# Altium footprint library rpi_shield.PcbLib: 42 footprints (part 2 of 3)
Each footprint in its own frame and in the unit in brackets; x right, y up, seen from the top. Pads: shape width x height; smd on the part's side, far side on the other; paste and mask are expansions set on the pad; w line width, h text height; cw(c..) or ccw(c..) is an arc to the next point about the centre after c.
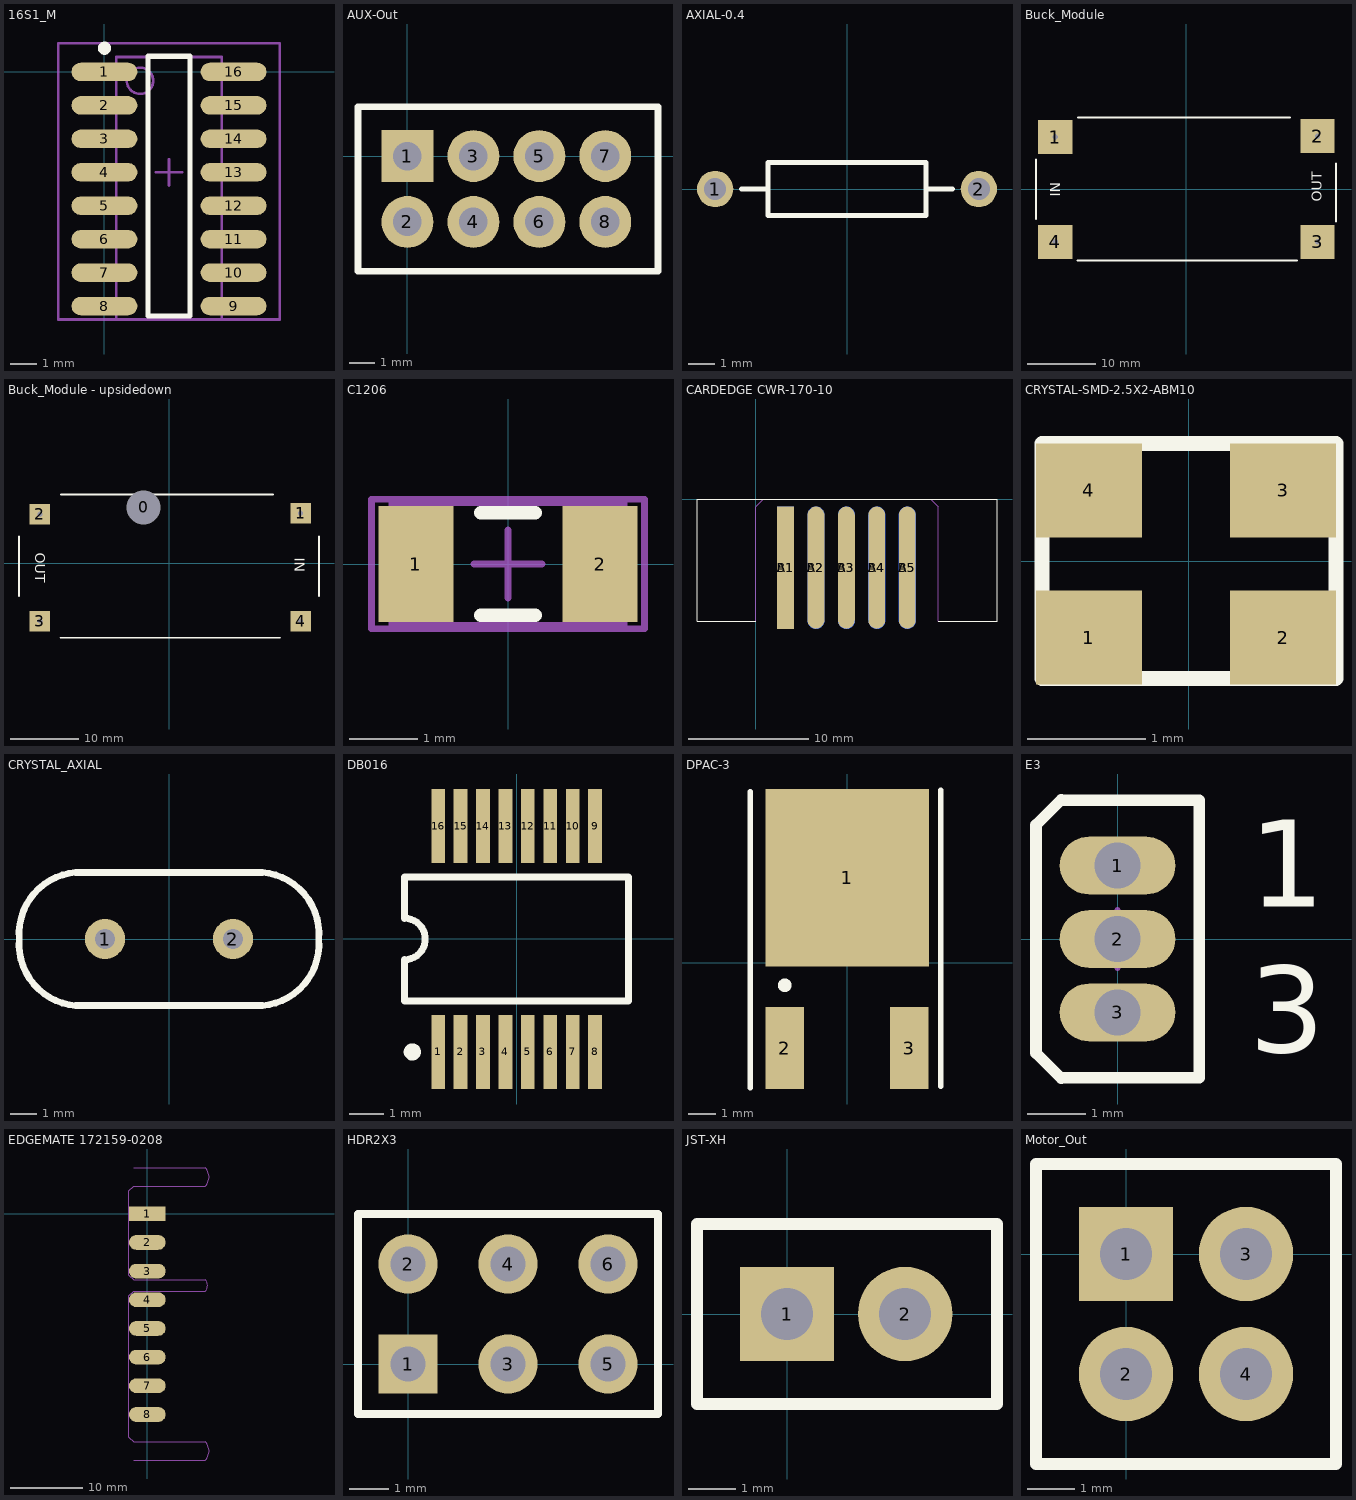
[diagram p1: the footprints below, top view; thin cyan lines are the x and y axes]

## 16S1_M [mm] "SOIC, 14-Leads, Body 8.7x3.9mm, Pitch 1.27mm, IPC Low Density"
height 1.75
pads (16):
  oval 2.5x0.7 smd: 1(0,0) 2(0,-1.27) 3(0,-2.54) 4(0,-3.81) 5(0,-5.08) 6(0,-6.35) 7(0,-7.62) 8(0,-8.89) 9(4.9,-8.89) 10(4.9,-7.62) 11(4.9,-6.35) 12(4.9,-5.08) 13(4.9,-3.81) 14(4.9,-2.54) 15(4.9,-1.27) 16(4.9,0)
Top Overlay:
  circle w0.25: c0,0.9 r0.125
  lines w0.2: 1.65,-9.271 3.25,-9.271 3.25,0.59 1.65,0.59 1.65,-9.271
Mechanical 13:
  circle w0.1: c1.35,-0.335 r0.5
  lines w0.1: 0.45,-9.398 4.45,-9.398 4.45,0.565 0.45,0.565 0.45,-9.398
Mechanical 15:
  lines w0.1: 1.95,-3.81 2.95,-3.81 ; 2.45,-4.31 2.45,-3.31 ; -1.75,-9.398 6.65,-9.398 6.65,1.09 -1.75,1.09 -1.75,-9.398
3D body: height 1.75, standoff 0, extent 0.45,-9.398 4.45,0.565

## AUX-Out [mm] "2.54mm"
pads (8):
  rect 2x2 hole 1.1: 1(0,0)
  round 2 hole 1.1: 2(0,-2.54) 3(2.54,0) 4(2.54,-2.54) 5(5.08,0) 6(5.08,-2.54) 7(7.62,0) 8(7.62,-2.54)
Top Overlay:
  lines w0.254: -1.905,-4.445 -1.905,1.905 9.652,1.905 9.652,-4.445 -1.905,-4.445

## AXIAL-0.4 [mm] "Axial Device, Thru-Hole; 2 Leads; 0.4 in Pin Spacing"
height 2.032
pads (2):
  round 1.4 hole 0.85: 1(-5.08,0) 2(5.08,0)
Top Overlay:
  lines w0.2: -4.064,0 -3.048,0 ; 3.048,0 4.064,0 ; -3.048,-1.016 3.048,-1.016 3.048,1.016 -3.048,1.016 -3.048,-1.016

## Buck_Module [mil]
height 472.44
pads (4):
  rect 196.85x196.85 hole 30: 1(-755,300) 2(760,305) 3(760,-305) 4(-755,-305)
Top Overlay:
  lines w10: -866.14,-173.86 -866.14,172.24 ; -626.61,-413.39 641.61,-413.39 ; -625,413.39 601.61,413.39 ; 866.14,-188.86 866.14,148.86
  text "OUT" at 785,-75 h60
  text "IN" at -725,-45 h60
3D body: height 590.55, standoff 118.11, extent -855,-400 855,400

## Buck_Module - upsidedown [mm]
height 12.3
pads (5):
  round 3 hole 5 unplated: 0(-3.8,8.184)
  rect 3x3 hole 0.762: 1(19.241,7.311) 2(-19,7.184) 3(-19,-8.5) 4(19.241,-8.5)
Top Overlay:
  lines w0.254: -22.063,-4.852 -22.063,3.939 ; -15.98,-10.936 16.234,-10.936 ; -15.938,10.064 15.218,10.064 ; 21.936,-4.852 21.936,3.939
  text "IN" at 18.415,0.762 h1.52
  text "OUT" at -19.685,1.524 h1.52
3D body: height 12, standoff 4, extent -14.16,-10.977 11.747,10.105
3D body: height 12, standoff 0, extent -21.971,-10.85 -3.238,10.155
3D body: height 12, standoff 0, extent 11.747,-10.85 21.907,9.978

## C1206 [mm] "Chip Capacitor, Body 3.2x1.6mm, IPC High Density"
height 1.3
pads (2):
  rect 1.1x1.7 smd: 1(-1.35,0) 2(1.35,0)
Top Overlay:
  lines w0.2: -0.4,-0.75 0.4,-0.75 ; -0.4,0.75 0.4,0.75
Mechanical 13:
  lines w0.1: -1.7,-0.9 1.7,-0.9 1.7,0.9 -1.7,0.9 -1.7,-0.9
Mechanical 15:
  lines w0.1: -0.5,0 0.5,0 ; 0,-0.5 0,0.5 ; -2,-0.95 2,-0.95 2,0.95 -2,0.95 -2,-0.95
3D body: height 1.3, standoff 0, extent -1.7,-0.9 1.7,0.9

## CARDEDGE CWR-170-10 [mm]
pads (10):
  rect 1.4x10.2 smd: A1(2.49,-5.715)
  oval 1.4x10.2 smd: A2(5.03,-5.715) A3(7.57,-5.715) A4(10.11,-5.715) A5(12.65,-5.715)
  rect 1.4x10.2 smd far side: B1(2.49,-5.715)
  oval 1.4x10.2 smd far side: B2(5.03,-5.715) B3(7.57,-5.715) B4(10.11,-5.715) B5(12.65,-5.715)
Top Overlay:
  lines w0.1: 0,-10.2 -4.887,-10.2 -4.9,-10.187 -4.9,0 20.14,0 20.14,-10.2 15.24,-10.2
Mechanical 1:
  lines w0.1: 0,-10.2 0,-0.635 0.635,0 14.605,0 15.24,-0.635 15.24,-10.2

## CRYSTAL-SMD-2.5X2-ABM10 [mm]
pads (4):
  rect 0.9x0.8 smd: 1(-0.85,-0.65) 2(0.8,-0.65) 3(0.8,0.6) 4(-0.85,0.6)
Top Overlay:
  lines w0.127: -1.25,-1 -1.25,1 ; -1.25,-1 1.25,-1 ; -1.25,-1 -1.25,1 ; -1.25,-1 1.25,-1 ; -1.25,1 1.25,1 ; -1.25,1 1.25,1 ; 1.25,-1 1.25,1 ; 1.25,-1 1.25,1

## CRYSTAL_AXIAL [mil] "Axial"
pads (2):
  round 60 hole 30: 1(-96.06,0) 2(96.06,0)
Top Overlay:
  lines w10: -225.06,0.73 cw(c-132.5,7.5) -140,100 140,100 cw(c132.5,7.5) 225,0 ; -225,0 ccw(c-132.5,-7.5) -140,-100 140,-100 ccw(c132.5,-7.5) 225.06,-0.73

## DB016 [mm] "SSOP, Plastic; 16 Leads; Body Width 5.3 mm; Pitch 0.65 mm"
height 2
pads (16):
  rect 0.4x2.15 smd: 1(-2.275,-3.275) 2(-1.625,-3.275) 3(-0.975,-3.275) 4(-0.325,-3.275) 5(0.325,-3.275) 6(0.975,-3.275) 7(1.625,-3.275) 8(2.275,-3.275) 9(2.275,3.275) 10(1.625,3.275) 11(0.975,3.275) 12(0.325,3.275) 13(-0.325,3.275) 14(-0.975,3.275) 15(-1.625,3.275) 16(-2.275,3.275)
Top Overlay:
  circle w0.25: c-3.025,-3.275 r0.125
  lines w0.2: -3.25,-1.8 -3.25,-0.6 ccw(c-3.25,0) -3.25,0.6 -3.25,1.8 3.25,1.8 3.25,-1.8 -3.25,-1.8
3D body: height 1.2, standoff 0, extent -2.54,-2.286 2.54,2.286

## DPAC-3 [mm] "D-PAC"
height 2.38
pads (3):
  rect 6x6.5 smd: 1(0.015,3.125)
  rect 1.4x3 smd: 2(-2.285,-3.125) 3(2.285,-3.125)
Top Overlay:
  circle w0.25: c-2.284,-0.822 r0.125
  lines w0.2: -3.555,-4.577 -3.555,6.273 ; 3.43,-4.522 3.43,6.328

## E3 [mm] "TO, Flat Index; 3 In-Line, Axial Leads; Body Dia. 4.6mm; Lead Dia. 0.5 mm (max)"
height 4.01
pads (3):
  oval 2x1 hole 0.8: 1(0,1.27) 2(0,0) 3(0,-1.27)
Top Overlay:
  lines w0.2: -0.97,-2.41 -1.41,-1.97 -1.41,1.97 -0.97,2.41 ; -0.97,-2.4 1.41,-2.4 1.41,2.4 -0.97,2.4
  text "1" at 2.275,0.555 h1.5
  text "3" at 2.275,-1.963 h1.5
Mechanical 15:
  lines w0.1: -0.5,0 0.5,0 ; 0,-0.5 0,0.5

## EDGEMATE 172159-0208 [mm]
pads (8):
  rect 5.08x2.03 smd: 1(0,0)
  oval 5.08x2.03 smd: 2(0,-3.96) 3(0,-7.92) 4(0,-11.88) 5(0,-15.84) 6(0,-19.8) 7(0,-23.76) 8(0,-27.72)
Mechanical 1:
  lines w0.1: -1.905,-34.036 8,-34.036
Mechanical 13:
  lines w0.1: -1.905,6.35 8,6.35 cw(c6.73,5.08) 8,3.81 -1.905,3.81 -2.54,3.175 -2.54,-8.509 -1.905,-9.144 8,-9.144 cw(c7.238,-9.906) 8,-10.668 -1.905,-10.668 -2.54,-11.303 -2.54,-30.861 -1.905,-31.496 8,-31.496 cw(c6.73,-32.766) 8,-34.036

## HDR2X3 [mm] "Connector; Header; 3x2 Position"
pads (6):
  rect 1.5x1.5 hole 0.9: 1(0,0)
  round 1.5 hole 0.9: 2(0,2.54) 3(2.54,0) 4(2.54,2.54) 5(5.08,0) 6(5.08,2.54)
Top Overlay:
  lines w0.2: 1.482,-1.27 6.35,-1.27 ; 6.35,-1.27 6.35,3.81 -1.27,3.81 -1.27,-1.27 6.35,-1.27

## JST-XH [mm] "JST-XH"
pads (2):
  rect 2x2 hole 1.1: 1(0,0)
  round 2 hole 1.1: 2(2.5,0)
Top Overlay:
  lines w0.254: -1.905,-1.905 4.445,-1.905 4.445,1.905 -1.905,1.905 -1.905,-1.905

## Motor_Out [mm] "2.54mm"
pads (4):
  rect 2x2 hole 1.1: 1(0,0)
  round 2 hole 1.1: 2(0,-2.54) 3(2.54,0) 4(2.54,-2.54)
Top Overlay:
  lines w0.254: -1.905,-4.445 -1.905,1.905 4.445,1.905 4.445,-4.445 -1.905,-4.445